# EAGLE library part IS31FL3236 (library thanics_robotics)
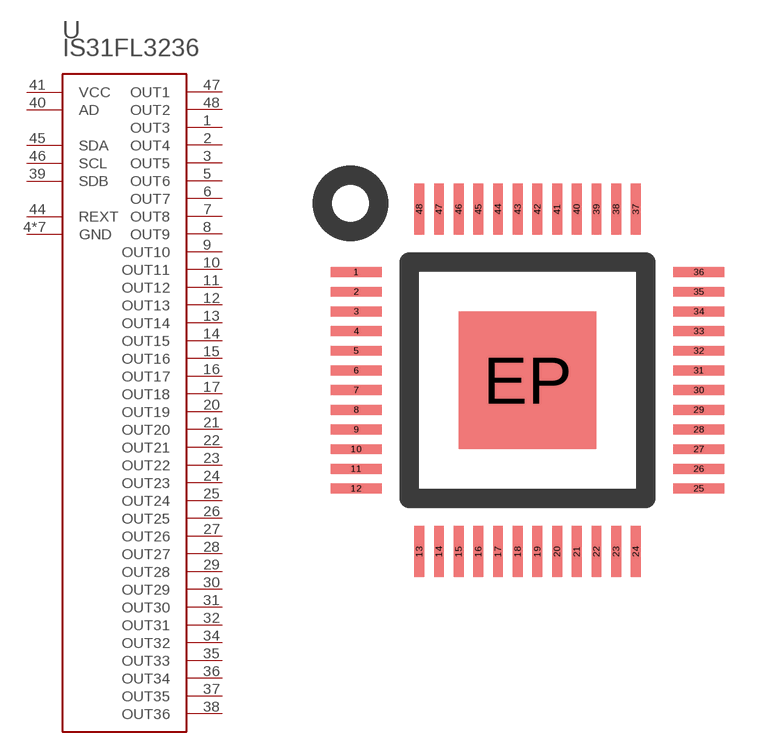
[diagram p21: symbol with the pads of TQFP-48; footprint TQFP-48]

Designator prefix -

## IS31FL3236  [TQFP-48]
1  OUT3
2  OUT4
3  OUT5
4  GND
5  OUT6
6  OUT7
7  OUT8
8  OUT9
9  OUT10
10  OUT11
11  OUT12
12  OUT13
13  OUT14
14  OUT15
15  OUT16
16  OUT17
17  OUT18
18  GND
19  GND
20  OUT19
21  OUT20
22  OUT21
23  OUT22
24  OUT23
25  OUT24
26  OUT25
27  OUT26
28  OUT27
29  OUT28
30  OUT29
31  OUT30
32  OUT31
33  GND
34  OUT32
35  OUT33
36  OUT34
37  OUT35
38  OUT36
39  SDB
40  AD
41  VCC
42  GND
43  GND
44  REXT
45  SDA
46  SCL
47  OUT1
48  OUT2
EP  GND

## Footprint TQFP-48 (pad centres in mm)
smd 1.3 x 0.25: 1 -4.35,2.75; 2 -4.35,2.25; 3 -4.35,1.75; 4 -4.35,1.25; 5 -4.35,0.75; 6 -4.35,0.25; 7 -4.35,-0.25; 8 -4.35,-0.75; 9 -4.35,-1.25; 10 -4.35,-1.75; 11 -4.35,-2.25; 12 -4.35,-2.75; 25 4.35,-2.75; 26 4.35,-2.25; 27 4.35,-1.75; 28 4.35,-1.25; 29 4.35,-0.75; 30 4.35,-0.25; 31 4.35,0.25; 32 4.35,0.75; 33 4.35,1.25; 34 4.35,1.75; 35 4.35,2.25; 36 4.35,2.75
smd 0.25 x 1.3: 13 -2.75,-4.35; 14 -2.25,-4.35; 15 -1.75,-4.35; 16 -1.25,-4.35; 17 -0.75,-4.35; 18 -0.25,-4.35; 19 0.25,-4.35; 20 0.75,-4.35; 21 1.25,-4.35; 22 1.75,-4.35; 23 2.25,-4.35; 24 2.75,-4.35; 37 2.75,4.35; 38 2.25,4.35; 39 1.75,4.35; 40 1.25,4.35; 41 0.75,4.35; 42 0.25,4.35; 43 -0.25,4.35; 44 -0.75,4.35; 45 -1.25,4.35; 46 -1.75,4.35; 47 -2.25,4.35; 48 -2.75,4.35
smd 3.5 x 3.5: EP 0,0